# EAGLE library part LTC3537 (library PowerProducts)
LT-Spice library generated with : ltspice.ulp from: D:/Program Files (x86)/LTC/LTspiceIV/lib/sym/PowerProducts/LTC3538*.asy at 07.10.2012 18:16:23
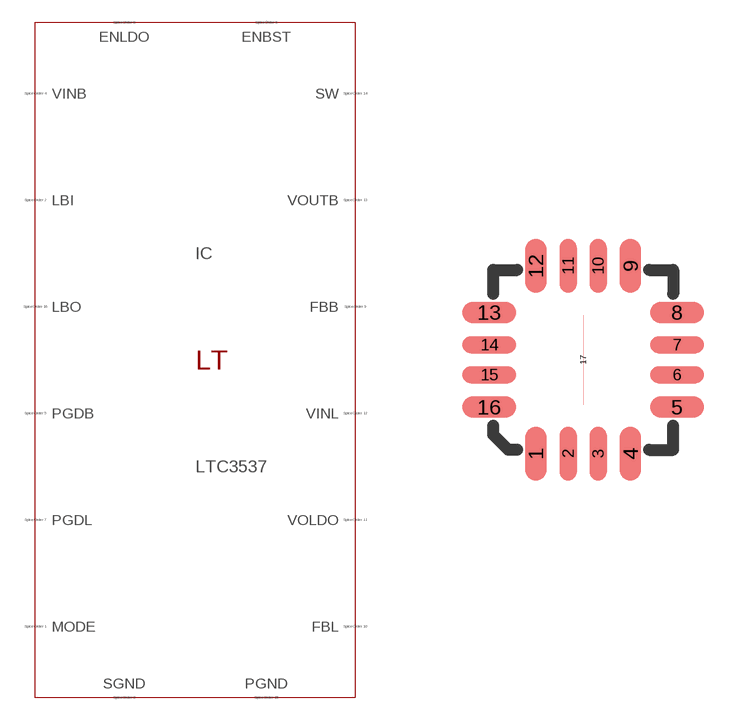
[diagram p226: symbol with the pads of QFN16(UD); footprint QFN16(UD)]

Designator prefix IC

## LTC3537 (SPICEMODEL: LTC3537.sub; SPICEPREFIX: X; VALUE2: LTC3537)  [QFN16(UD)]
1  MODE  pas
2  LBI  pas
3  SGND  pas
4  VINB  pas
5  PGDB  pas
6  ENBST  pas
7  PGDL  pas
8  ENLDO  pas
9  FBB  pas
10  FBL  pas
11  VOLDO  pas
12  VINL  pas
13  VOUTB  pas
14  SW  pas
15  PGND  pas
16  LBO  pas
17  PGND  pas

## Footprint QFN16(UD) (pad centres in mm)
Package generated from: QFN16(UD).asc (!PADS-POWERPCB-V9.3-BASIC! DESIGN DATABASE ASCII FILE 1.0) with :import-pads-powerpcb-v5.ulp Version 1.0.1 at 04.10.2012 14:11:23
smd 0.54 x 1.35: 1 -1.185,-2.348; 4 1.185,-2.348; 9 1.185,2.348; 12 -1.185,2.348
smd 0.42 x 1.35: 2 -0.375,-2.348; 3 0.375,-2.348; 10 0.375,2.348; 11 -0.375,2.348
smd 1.35 x 0.54: 5 2.348,-1.185; 8 2.348,1.185; 13 -2.348,1.185; 16 -2.348,-1.185
smd 1.35 x 0.42: 6 2.348,-0.375; 7 2.348,0.375; 14 -2.348,0.375; 15 -2.348,-0.375
smd 0 x 2.25: 17 0,0